# EAGLE library part ESP32_WROOME (library ESP32 wroom 32e)
2.4 GHz Wi­Fi + Bluetooth® + Bluetooth LE module Built around ESP32 series of SoCs, Xtensa® dual­core 32­bit LX6 microprocessor 4/8/16 MB flash available 26 GPIOs, rich set of peripherals On­board PCB antenna or external antenna connector
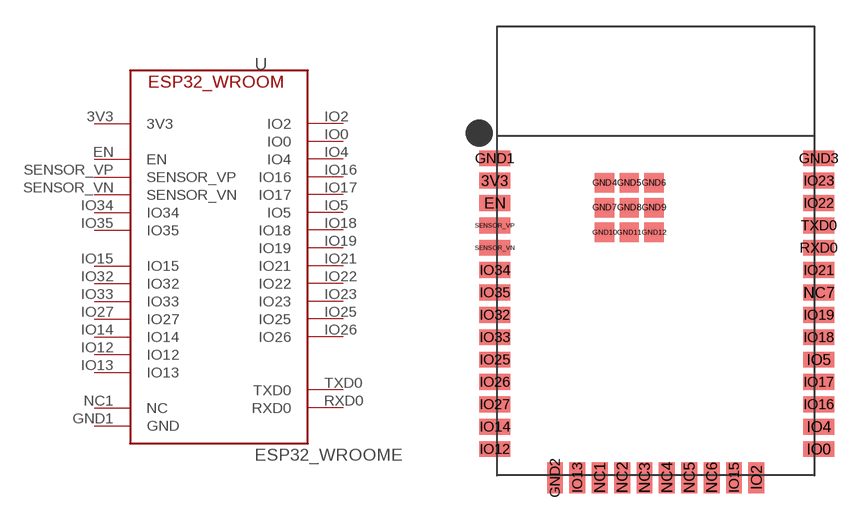
[diagram p0: symbol with the pads of ESP32_WROOM; footprint ESP32_WROOM]

Designator prefix -

## ESP32_WROOME  [ESP32_WROOM]
3V3  3V3  in
EN  EN  in
GND1  GND  pas
IO0  IO0
IO2  IO2
IO4  IO4
IO5  IO5
IO12  IO12
IO13  IO13
IO14  IO14
IO15  IO15
IO16  IO16
IO17  IO17
IO18  IO18
IO19  IO19
IO21  IO21
IO22  IO22
IO23  IO23
IO25  IO25
IO26  IO26
IO27  IO27
IO32  IO32
IO33  IO33
IO34  IO34  in
IO35  IO35  in
NC1  NC
RXD0  RXD0
SENSOR_VN  SENSOR_VN  in
SENSOR_VP  SENSOR_VP  in
TXD0  TXD0

## Footprint ESP32_WROOM (pad centres in mm)
smd 1.75 x 0.9: 3V3 -9.125,3.99; EN -9.125,2.72; GND1 -9.125,5.26; GND3 9.25,5.26; IO0 9.25,-11.25; IO4 9.25,-9.98; IO5 9.25,-6.17; IO12 -9.125,-11.25; IO14 -9.125,-9.98; IO16 9.25,-8.71; IO17 9.25,-7.44; IO18 9.25,-4.9; IO19 9.25,-3.63; IO21 9.25,-1.09; IO22 9.25,2.72; IO23 9.25,3.99; IO25 -9.125,-6.17; IO26 -9.125,-7.44; IO27 -9.125,-8.71; IO32 -9.125,-3.63; IO33 -9.125,-4.9; IO34 -9.125,-1.09; IO35 -9.125,-2.36; NC7 9.25,-2.36; RXD0 9.25,0.18; SENSOR_VN -9.125,0.18; SENSOR_VP -9.125,1.45; TXD0 9.25,1.45
smd 0.9 x 1.75: GND2 -5.715,-12.875; IO2 5.715,-12.875; IO13 -4.445,-12.875; IO15 4.445,-12.875; NC1 -3.175,-12.875; NC2 -1.905,-12.875; NC3 -0.635,-12.875; NC4 0.635,-12.875; NC5 1.905,-12.875; NC6 3.175,-12.875
smd 1.1 x 1.1: GND4 -2.9,3.86; GND5 -1.5,3.86; GND6 -0.1,3.86; GND7 -2.9,2.46; GND8 -1.5,2.46; GND9 -0.1,2.46; GND10 -2.9,1.06; GND11 -1.5,1.06; GND12 -0.1,1.06